# EAGLE library part ACSL-7210-06RE (library ACSL-7210-06RE)
OptoCoupler 2-CH 8-Pin SO Tube - Bulk Dual-Channel (Bidirectional) 25-MBd CMOS Buffered Input Digital Optocoupler Source: Datasheet <https://docs.broadcom.com/docs/AV02-4235EN>
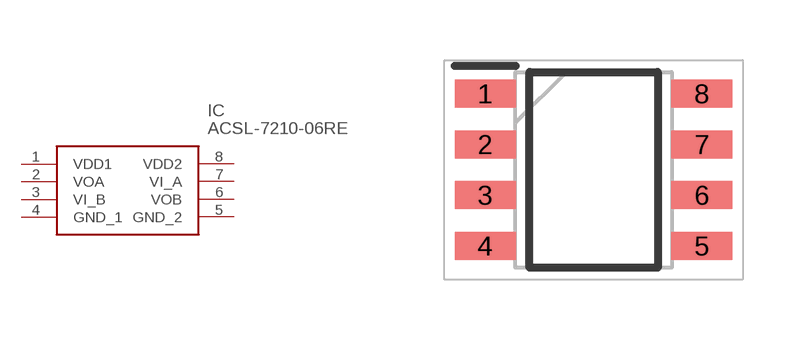
[diagram p0: symbol with the pads of SOIC127P600X175-8N; footprint SOIC127P600X175-8N]

Designator prefix IC

## ACSL-7210-06RE (Description: OptoCoupler 2-CH 8-Pin SO Tube - Bulk Dual-Channel (Bidirectional) 25-MBd CMOS Buffered Input Digital Optocoupler; Height: 1.75mm; Manufacturer_Name: Avago Technologies; Manufacturer_Part_Number: ACSL-7210-06RE; Mouser_Part_Number: 630-ACSL-7210-06RE; Mouser_Price-Stock: https://www.mouser.co.uk/ProductDetail/Broadcom-Avago/ACSL-7210-06RE?qs=3oHdzXquMOy6LsI3XOac9Q%3D%3D)  [SOIC127P600X175-8N]
1  VDD1
2  VOA
3  VI_B
4  GND_1
5  GND_2
6  VOB
7  VI_A
8  VDD2

## Footprint SOIC127P600X175-8N (pad centres in mm)
ACSL-7210 SO-8
smd 1.525 x 0.7: 1 -2.712,1.905; 2 -2.712,0.635; 3 -2.712,-0.635; 4 -2.712,-1.905; 5 2.712,-1.905; 6 2.712,-0.635; 7 2.712,0.635; 8 2.712,1.905